# Altium footprint library RES.PcbLib: 29 footprints (part 2 of 2)
Each footprint in its own frame and in the unit in brackets; x right, y up, seen from the top. Pads: shape width x height; smd on the part's side, far side on the other; paste and mask are expansions set on the pad; w line width, h text height; cw(c..) or ccw(c..) is an arc to the next point about the centre after c.
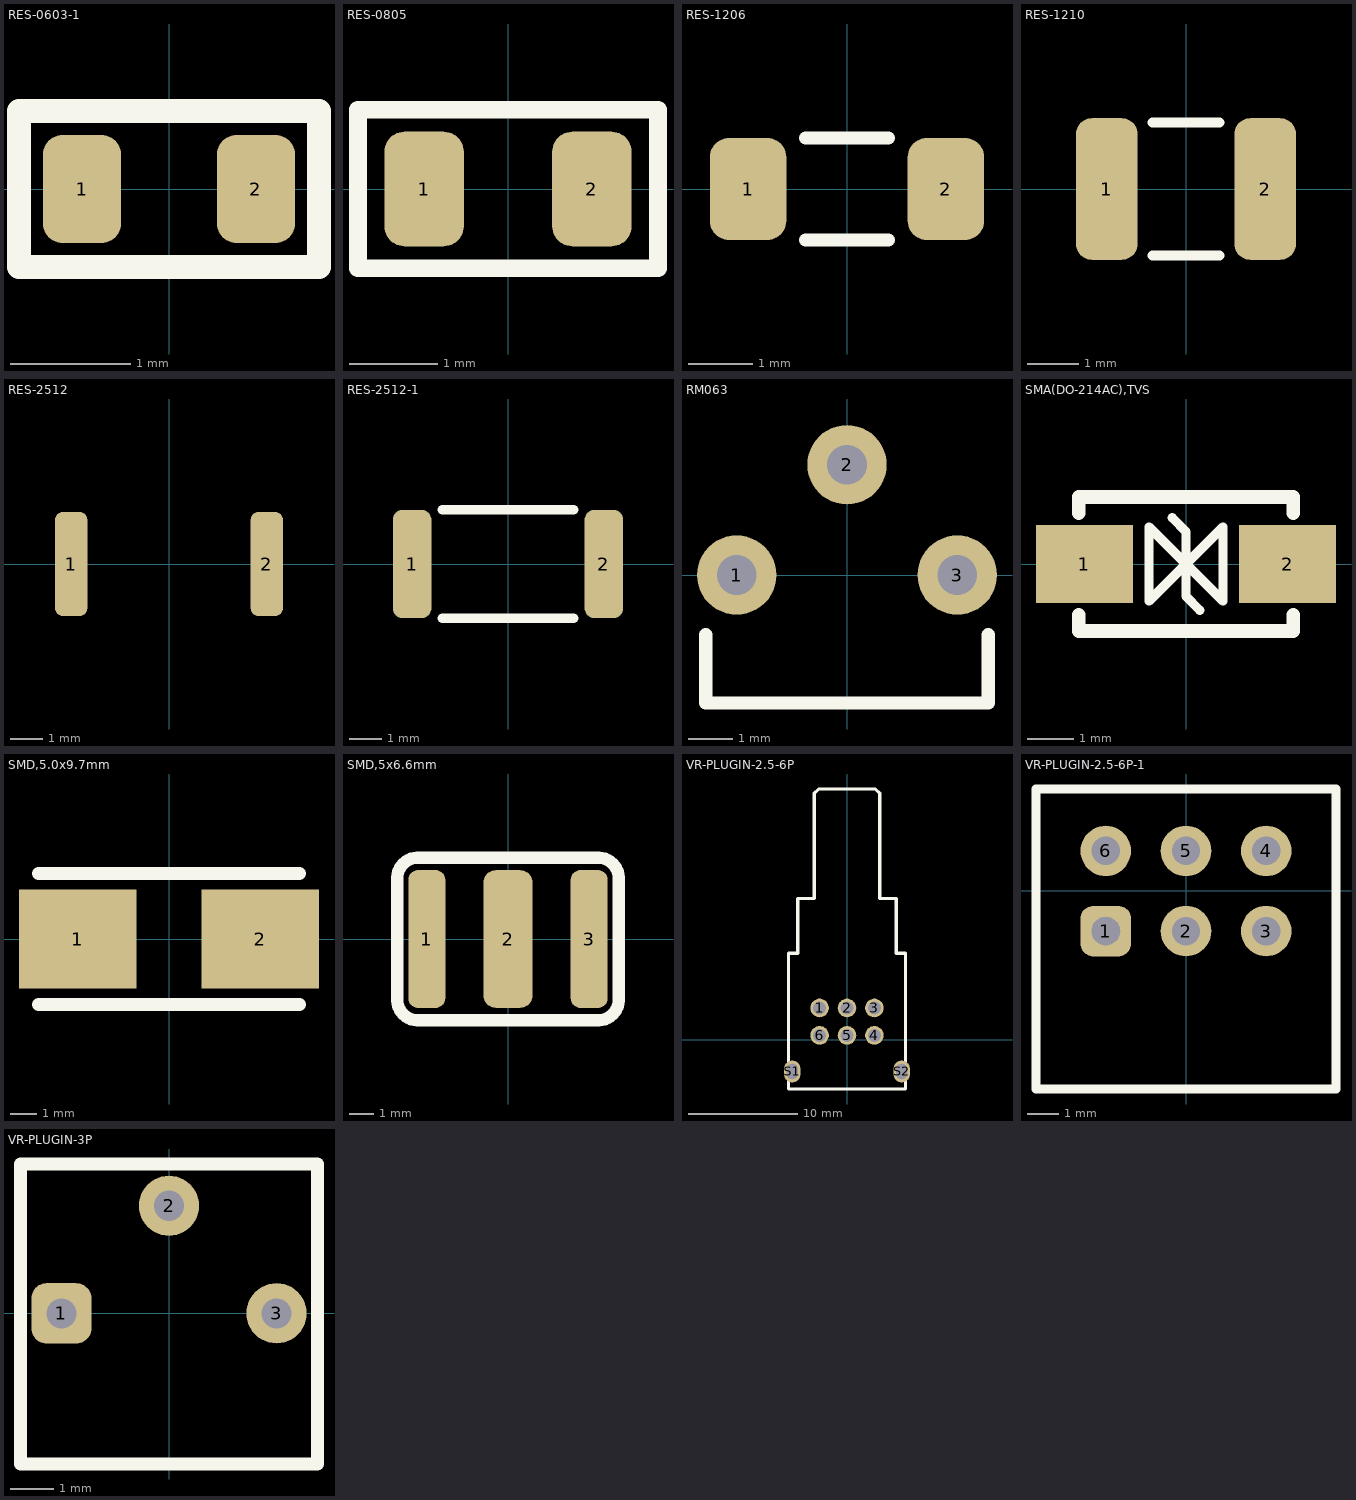
[diagram p1: the footprints below, top view; thin cyan lines are the x and y axes]

## RES-0603-1 [mm]
pads (2):
  rrect50% 0.65x0.9 smd: 1(-0.725,0) 2(0.725,0)
Top Overlay:
  lines w0.2: -1.25,-0.65 1.25,-0.65 1.25,0.65 -1.25,0.65 -1.25,-0.65
3D body "ERJ-U03F6800V.STEP": height 0.45, standoff 0, extent -0.8,-0.4 0.8,0.4

## RES-0805 [mm]
pads (2):
  rrect50% 0.9x1.3 smd: 1(-0.95,0) 2(0.95,0)
Top Overlay:
  lines w0.2: -1.7,-0.9 -1.7,0.9 1.7,0.9 1.7,-0.9 -1.7,-0.9
3D body "resistencia_smd_0805.step": height 0.49, standoff 0, extent -1,-0.6 1,0.6

## RES-1206 [mm]
pads (2):
  rrect50% 1.2x1.6 smd: 1(-1.55,0) 2(1.55,0)
Top Overlay:
  lines w0.2: -0.65,-0.8 0.65,-0.8 ; -0.65,0.8 0.65,0.8
3D body "R1206 AC1206.step": height 0.55, standoff 0, extent -1.55,-0.8 1.55,0.8

## RES-1210 [mm]
pads (2):
  rrect50% 1.2x2.77 smd: 1(-1.55,0) 2(1.55,0)
Top Overlay:
  lines w0.2: -0.65,-1.3 0.65,-1.3 ; -0.65,1.3 0.65,1.3
3D body "step_temp.STEP": height 0.65, standoff 0, extent -1.55,-1.3 1.55,1.3

## RES-2512 [mm]
pads (2):
  rrect50% 1x3.2 smd: 1(-3,0) 2(3,0)
3D body "step_temp.STEP": height 0.65, standoff 0, extent -3.175,-1.55 3.175,1.55

## RES-2512-1 [mil]
pads (2):
  rrect50% 47x132 smd: 1(-117,0) 2(117,0)
Top Overlay:
  lines w11.81: -80,-66 80,-66 ; -80,66 80,66
3D body "step_temp.STEP": height 25.59, standoff 0, extent -125,-61.02 125,61.02

## RM063 [mm]
pads (3):
  round 1.8 hole 0.9 mask+0.1: 1(-2.5,0) 2(0,2.5) 3(2.5,0)
Top Overlay:
  lines w0.3: -3.2,-1.355 -3.2,-2.9 3.2,-2.9 3.2,-1.355
3D body "User Library-RM-063.STEP": height 10.5, standoff -0.81, extent -3.25,-2.9 3.25,2.729

## SMA(DO-214AC),TVS [mm]
pads (2):
  rect 2.1x1.7 smd: 1(-2.2,0) 2(2.2,0)
Top Overlay:
  lines w0.2: -0.3,1 0,0.7 0,0 ; 0.3,-1 0,-0.7 0,0 ; 0,0 0.8,-0.8 0.8,0.8 0,0 ; 0,0 -0.8,0.8 -0.8,-0.8 0,0
  lines w0.3: -2.325,-1.104 -2.325,-1.45 2.325,-1.45 2.325,-1.104 ; -2.325,1.104 -2.325,1.45 2.325,1.45 2.325,1.104
3D body "SMA6J12A.step": height 2.5, standoff 0, extent -2.57,-1.28 2.57,1.28

## SMD,5.0x9.7mm [mm]
pads (2):
  rect 4.5x3.8 smd: 1(-3.5,0) 2(3.5,0)
Top Overlay:
  lines w0.5: -5,-2.515 5,-2.515 ; -5,2.515 5,2.515
3D body "SMD fuse holder v7.step": height 4.14, standoff 0, extent -4.75,-2.5 4.75,2.5

## SMD,5x6.6mm [mm]
pads (3):
  rrect50% 1.5x5.6 smd: 1(-3.3,0) 3(3.3,0)
  rrect50% 2x5.6 smd: 2(0,0)
Top Overlay:
  lines w0.5: -4.5,-2.5 ccw(c-3.7,-2.5) -3.7,-3.3 3.7,-3.3 ccw(c3.7,-2.5) 4.5,-2.5 4.5,2.5 ccw(c3.7,2.5) 3.7,3.3 -3.7,3.3 ccw(c-3.7,2.5) -4.5,2.5 -4.5,-2.5
3D body "GDT__BrightKing_3R-5-S_series.stp": height 5, standoff 0, extent -3.65,-2.5 3.55,2.5

## VR-PLUGIN-2.5-6P [mm]
pads (8):
  round 1.7 hole 1.2: 1(-2.5,2.9) 2(0,2.9) 3(2.5,2.9) 4(2.5,0.4) 5(0,0.4) 6(-2.5,0.4)
  oval 1.5x2 hole 1 slot 1.4 at 90 deg: S1(-5,-2.9) S2(5,-2.9)
Top Overlay:
  lines w0.3: -5.35,-4.5 5.35,-4.5 5.35,7.9 4.5,7.9 4.5,12.9 3,12.9 3,22.5 2.6,22.9 -2.6,22.9 -3,22.5 -3,12.9 -4.5,12.9 -4.5,7.9 -5.35,7.9 -5.35,-4.5
3D body "rk09l12b0a31.stp": height 11.85, standoff -3.05, extent -6.05,-4.5 6.05,22.9

## VR-PLUGIN-2.5-6P-1 [mm]
pads (6):
  rrect50% 1.6x1.6 hole 0.9: 1(-2.54,-1.27)
  round 1.6 hole 0.9: 2(0,-1.27) 3(2.54,-1.27) 4(2.54,1.27) 5(0,1.27) 6(-2.54,1.27)
Top Overlay:
  lines w0.3: -4.75,-6.27 4.75,-6.27 4.75,3.23 -4.75,3.23 -4.75,-6.27
3D body "RK0972-L-15KC_N-5-green.step": height 12.8, standoff -3.5, extent -6,-21.25 6,3.3

## VR-PLUGIN-3P [mm]
pads (3):
  rrect50% 1.4x1.4 hole 0.7: 1(-2.5,0)
  round 1.4 hole 0.7: 2(0,2.5) 3(2.5,0)
Top Overlay:
  lines w0.3: -3.45,-3.5 -3.45,3.47 3.45,3.47 3.45,-3.5 -3.45,-3.5
3D body "3362P-1-103--3DModel-STEP-56544.STEP": height 4.88, standoff -5.84, extent -3.3,-3.495 3.3,3.495